# Altium footprint library SSST.PcbLib: 23 footprints (part 1 of 2)
Each footprint in its own frame and in the unit in brackets; x right, y up, seen from the top. Pads: shape width x height; smd on the part's side, far side on the other; paste and mask are expansions set on the pad; w line width, h text height; cw(c..) or ccw(c..) is an arc to the next point about the centre after c.
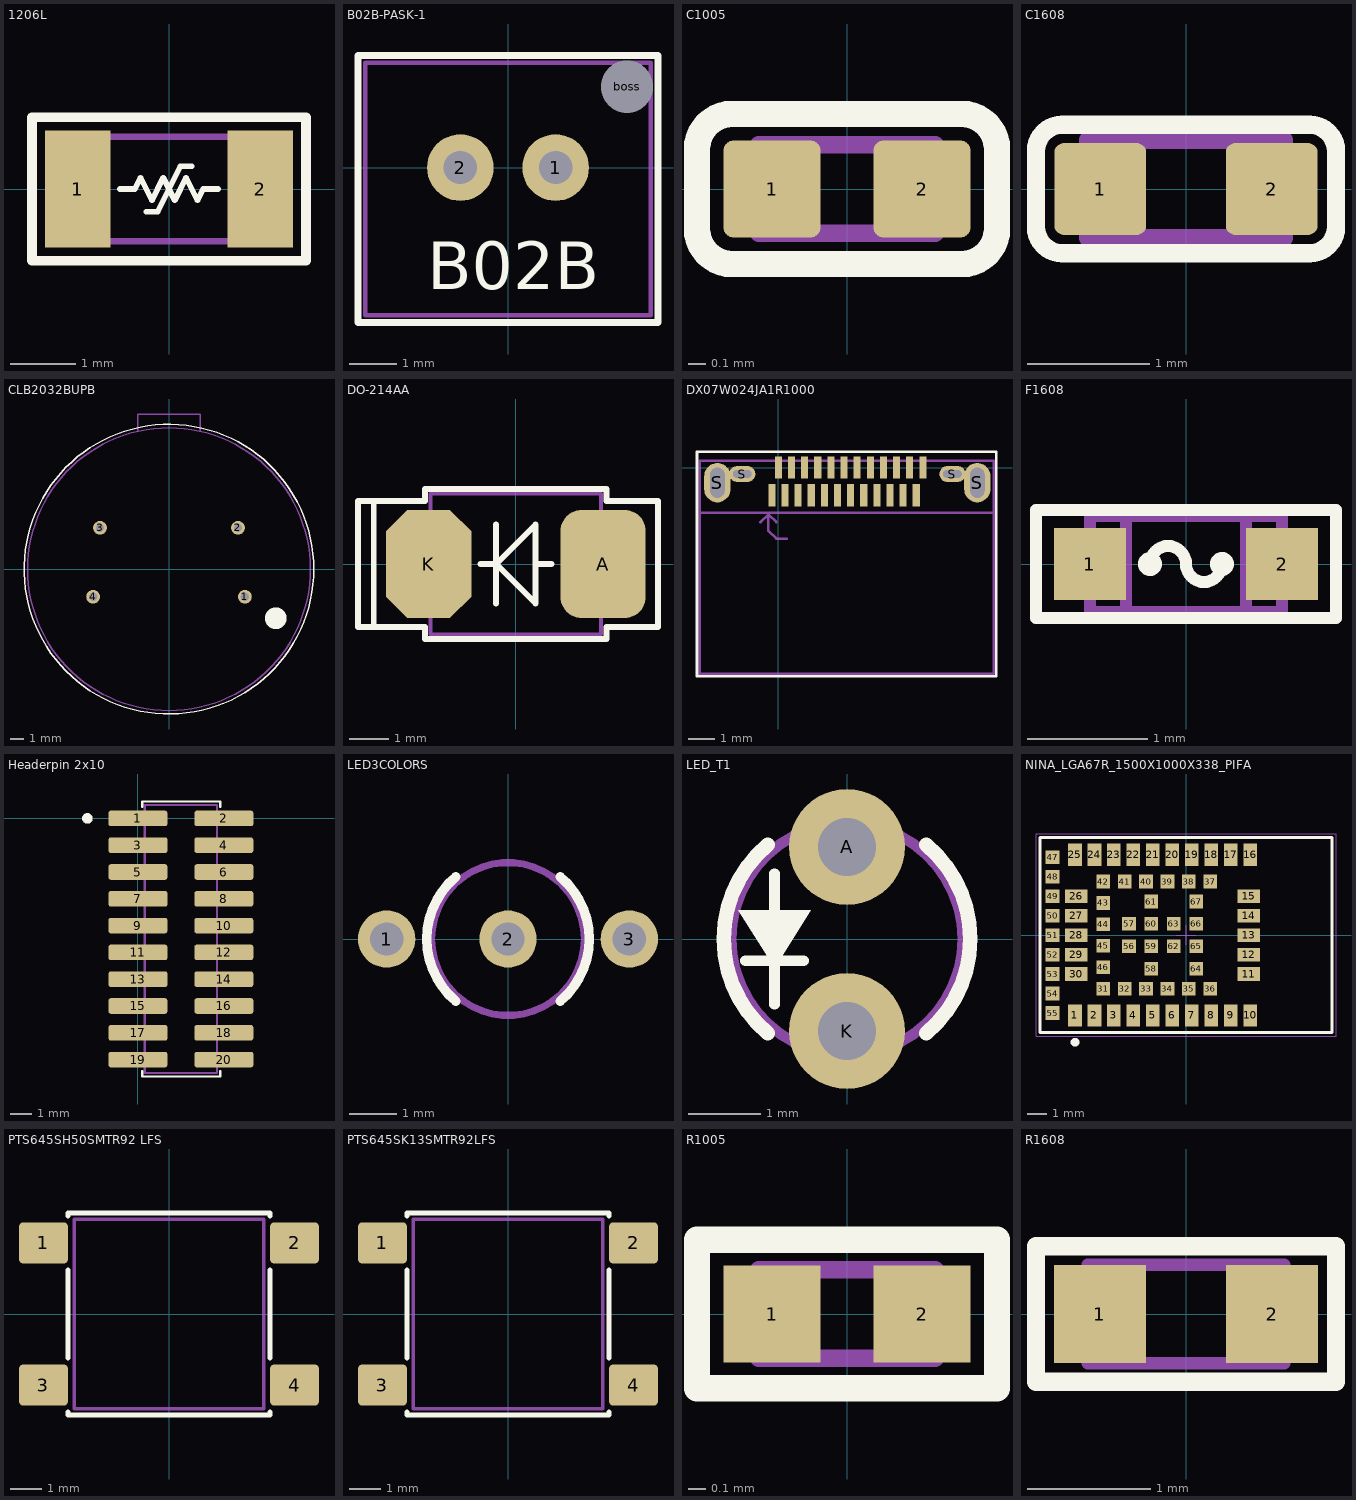
[diagram p0: the footprints below, top view; thin cyan lines are the x and y axes]

## 1206L [mm] "Resettable PTC 3.2mm x 1.6mm"
height 0.8
pads (2):
  rect 1x1.8 smd mask+0.05: 1(-1.4,0) 2(1.4,0)
Top Overlay:
  lines w0.087: -0.75,0 -0.524,0 -0.437,0.175 -0.262,-0.175 -0.087,0.175 0.087,-0.175 0.262,0.175 0.437,-0.175 0.524,0 0.75,0 ; -0.349,-0.349 -0.175,-0.349 0.175,0.349 0.349,0.349
  lines w0.15: -2.1,-1.1 2.1,-1.1 2.1,1.1 -2.1,1.1 -2.1,-1.1
Mechanical 5:
  lines w0.1: 1.599,-0.24 cw(c1.599,0) 1.599,0.24 ; 1.6,-0.24 1.6,-0.8 -1.6,-0.8 -1.6,-0.24 ccw(c-1.6,0) -1.6,0.24 -1.6,0.8 1.6,0.8 1.6,0.24
  text ".designator" at -1.1,-0.3 h0.6
Mechanical 13:
  lines w0.1: -1.1,-0.8 -1.1,0.8 ; 1.1,-0.8 1.1,0.8 ; 1.599,-0.24 cw(c1.599,0) 1.599,0.24 ; 1.6,-0.24 1.6,-0.8 -1.6,-0.8 -1.6,-0.24 ccw(c-1.6,0) -1.6,0.24 -1.6,0.8 1.6,0.8 1.6,0.24
3D body: height 1, standoff 0, extent -1.6,-0.8 -1.1,0.8
3D body: height 1, standoff 0, extent 1.1,-0.75 1.6,0.85
3D body: height 1, standoff 0, extent -1.1,-0.8 1.1,0.8

## B02B-PASK-1 [mm] "JST2ピンコネクタ"
height 12.62
pads (3):
  round 1.4 hole 0.7: 1(1,0) 2(-1,0)
  round 0.8 hole 1.1 unplated: boss(2.5,1.7)
Top Overlay:
  lines w0.15: -3.15,-3.25 -3.15,2.35 3.15,2.35 3.15,-3.25 -3.15,-3.25
  text "B02B" at -1.7,-2.55 h1
Bottom Overlay:
  text "2" at -0.65,-2.05 h1
  text "1" at 1.15,-2.05 h1
Mechanical 13:
  lines w0.1: -3,-3.1 -3,2.2 -2.95,2.2 3,2.2 3,-3.1 -3,-3.1
3D body "B02B-PASK.STEP": height 7.75, standoff -2.95, extent -3,-3.1 3,2.2

## C1005 [mm] "Ceramic capacitor 1mm x 0.5mm"
height 0.5
pads (2):
  rrect20% 0.55x0.55 smd mask+0.05: 1(-0.425,0) 2(0.425,0)
Top Overlay:
  lines w0.15: -0.85,-0.225 ccw(c-0.65,-0.225) -0.65,-0.425 0.65,-0.425 ccw(c0.65,-0.225) 0.85,-0.225 0.85,0.225 ccw(c0.65,0.225) 0.65,0.425 -0.65,0.425 ccw(c-0.65,0.225) -0.85,0.225 -0.85,-0.225
Mechanical 5:
  lines w0.1: -0.85,-0.225 ccw(c-0.65,-0.225) -0.65,-0.425 0.65,-0.425 ccw(c0.65,-0.225) 0.85,-0.225 0.85,0.225 ccw(c0.65,0.225) 0.65,0.425 -0.65,0.425 ccw(c-0.65,0.225) -0.85,0.225 -0.85,-0.225
  text ".designator" at -0.66,-0.15 h0.3
Mechanical 13:
  lines w0.1: -0.225,-0.25 -0.225,0.25 ; 0.225,-0.25 0.225,0.25 ; -0.5,-0.25 -0.5,0.25 0.5,0.25 0.5,-0.25 -0.5,-0.25
3D body: height 0.5, standoff 0, extent -0.499,-0.249 -0.226,0.249
3D body: height 0.5, standoff 0, extent -0.224,-0.249 0.224,0.249
3D body: height 0.5, standoff 0, extent 0.226,-0.249 0.499,0.249

## C1608 [mm] "Ceramic capacitor 1.6mm x 0.8mm"
height 0.8
pads (2):
  rrect20% 0.75x0.75 smd mask+0.05: 1(-0.7,0) 2(0.7,0)
Top Overlay:
  lines w0.15: -1.225,-0.31 ccw(c-1.01,-0.31) -1.01,-0.525 1.01,-0.525 ccw(c1.01,-0.31) 1.225,-0.31 1.225,0.31 ccw(c1.01,0.31) 1.01,0.525 -1.01,0.525 ccw(c-1.01,0.31) -1.225,0.31 -1.225,-0.31
Mechanical 5:
  lines w0.1: -1.225,-0.31 ccw(c-1.01,-0.31) -1.01,-0.525 1.01,-0.525 ccw(c1.01,-0.31) 1.225,-0.31 1.225,0.31 ccw(c1.01,0.31) 1.01,0.525 -1.01,0.525 ccw(c-1.01,0.31) -1.225,0.31 -1.225,-0.31
  text ".designator" at -1.1,-0.25 h0.5
Mechanical 13:
  lines w0.15: -0.4,-0.4 -0.4,0.4 ; 0.4,-0.4 0.4,0.4 ; -0.8,-0.4 -0.8,0.4 0.8,0.4 0.8,-0.4 -0.8,-0.4
3D body: height 0.8, standoff 0, extent -0.799,-0.399 -0.401,0.399
3D body: height 0.8, standoff 0, extent -0.399,-0.399 0.399,0.399
3D body: height 0.8, standoff 0, extent 0.401,-0.399 0.799,0.399

## CLB2032BUPB [mm] "3.7V出力電池　ピン出力タイプ"
height 4.5
pads (4):
  round 1 hole 0.6: 1(5.5,-2) 2(5,3) 3(-5,3) 4(-5.5,-2)
Top Overlay:
  circle w0.1: c0,0 r10.5
  circle w1: c7.747,-3.556 r0.284
Mechanical 13:
  circle w0.1: c0,0 r10.25
  lines w0.1: -2.25,10.033 -2.25,11.25 2.25,11.25 2.25,10.033
3D body: height 5, standoff 0, extent -10.269,-10.269 10.269,10.269

## DO-214AA [mm] "SMB"
height 0.8
pads (2):
  rrect50% 2.159x2.743 smd: A(2.21,0)
  oct 2.159x2.743 smd: K(-2.21,0)
Top Overlay:
  lines w0.15: -0.9,0 -0.5,0 ; -0.5,-1 -0.5,1 ; -0.45,-0.05 0.5,-1 0.5,1 -0.45,0.05 ; 0.5,0 0.9,0 ; -3.6,-1.6 -3.6,1.6 ; -3.6,-1.6 -2.3,-1.6 -2.3,-1.9 2.3,-1.9 2.3,-1.6 3.6,-1.6 3.6,1.6 2.3,1.6 2.3,1.9 -2.3,1.9 -2.3,1.6 -3.6,1.6 ; -3.6,-1.6 -4,-1.6 -4,1.6 -3.6,1.6
Mechanical 5:
  text ".designator" at -1.55,-0.35 h0.7
Mechanical 13:
  lines w0.1: -2.16,-1 -2.72,-1 -2.72,1 -2.16,1 ; 2.16,-1 2.72,-1 2.72,1 2.16,1 ; -2.16,-1.78 2.16,-1.78 2.16,1.78 -2.16,1.78 -2.16,-1.78
3D body: height 0.8, standoff 0, extent -2.159,-1.779 2.159,1.779
3D body: height 0.5, standoff 0, extent 2.161,-0.999 2.719,0.999
3D body: height 0.5, standoff 0, extent -2.719,-0.999 -2.161,0.999

## DX07W024JA1R1000 [mm] "USB3.1 Type-C"
height 4.5
pads (28):
  rect 0.27x0.85 smd paste+0 mask+0.05: A1(0,0) A2(0.5,0) A3(1,0) A4(1.5,0) A5(2,0) A6(2.5,0) A7(3,0) A8(3.5,0) A9(4,0) A10(4.5,0) A11(5,0) A12(5.5,0) B1(5.25,-1.05) B2(4.75,-1.05) B3(4.25,-1.05) B4(3.75,-1.05) B5(3.25,-1.05) B6(2.75,-1.05) B7(2.25,-1.05) B8(1.75,-1.05) B9(1.25,-1.05) B10(0.75,-1.05) B11(0.25,-1.05) B12(-0.25,-1.05)
  oval 1x1.5 hole 0.55 slot 1.15 at 90 deg mask+0.05: S(-2.325,-0.575) S(7.575,-0.575)
  oval 1x0.6 hole 0.3 slot 0.7 at 0 deg mask+0.05: S(-1.375,-0.245) S(6.625,-0.245)
Top Overlay:
  lines w0.1: -3.1,-7.944 8.3,-7.944 8.3,0.6 -3.1,0.6 -3.1,-7.944
Mechanical 5:
  lines w0.1: -2.996,-1.725 8.204,-1.725 ; -2.996,-7.851 8.204,-7.851 8.204,0.254 -2.996,0.254 -2.996,-7.851
  text ".designator" at -2.905,-6.186 h1.5
Mechanical 13:
  lines w0.1: -2.996,-1.725 8.204,-1.725 ; -0.681,-2.078 -0.381,-1.778 ; -0.081,-2.078 -0.381,-1.778 ; 0.319,-2.708 -0.081,-2.708 -0.381,-2.408 -0.381,-1.778 ; -2.996,-7.851 -2.996,0.254 8.204,0.254 8.204,-7.851 -2.996,-7.851
  text "PCB EDGE" at 0.619,-2.278 h0.8
3D body "K3D-DX07W024JA1-V1_JAE_Proprietary.STEP": height 3.6, standoff -0.9, extent -2.975,-7.879 8.225,0.171

## F1608 [mm] "Fuse 1.6mm x 0.8mm"
height 0.4
pads (2):
  rect 0.6x0.6 smd mask+0.05: 1(-0.8,0) 2(0.8,0)
Top Overlay:
  circle w0.1: c-0.3,0 r0.05
  circle w0.1: c0.3,0 r0.05
  lines w0.1: -0.3,0 cw(c-0.15,0) -0.15,0.15 cw(c-0.15,0) 0,0 ccw(c0.15,0) 0.15,-0.15 ccw(c0.15,0) 0.3,0 ; -1.25,-0.45 1.25,-0.45 1.25,0.45 -1.25,0.45 -1.25,-0.45
Mechanical 5:
  lines w0.1: -1.25,-0.45 1.25,-0.45 1.25,0.45 -1.25,0.45 -1.25,-0.45
  text ".designator" at -1.05,-0.25 h0.5
Mechanical 13:
  lines w0.1: -0.5,-0.4 -0.5,0.4 ; 0.5,-0.4 0.5,0.4 ; -0.8,-0.4 -0.8,0.4 0.8,0.4 0.8,-0.4 -0.8,-0.4
3D body: height 0.45, standoff 0, extent 0.5,-0.399 0.799,0.399
3D body: height 0.45, standoff 0, extent -0.5,-0.399 0.5,0.399
3D body: height 0.45, standoff 0, extent -0.799,-0.399 -0.5,0.399

## Headerpin 2x10 [mm] "Headerpin 2x10,1.27mm Pitch"
height 1.75
pads (20):
  rrect30% 2.79x0.74 smd: 1(0,0) 2(4.07,0) 3(0,-1.27) 4(4.07,-1.27) 5(0,-2.54) 6(4.07,-2.54) 7(0,-3.81) 8(4.07,-3.81) 9(0,-5.08) 10(4.07,-5.08) 11(0,-6.35) 12(4.07,-6.35) 13(0,-7.62) 14(4.07,-7.62) 15(0,-8.89) 16(4.07,-8.89) 17(0,-10.16) 18(4.07,-10.16) 19(0,-11.43) 20(4.07,-11.43)
Top Overlay:
  circle w0.25: c-2.4,0 r0.125
  lines w0.1: 0.2,-11.98 0.2,-12.23 3.9,-12.23 3.9,-11.98 ; 0.2,0.55 0.2,0.8 3.9,0.8 3.9,0.55
Mechanical 5:
  circle w0.1: c1,0 r0.3
  lines w0.1: 0.3,-11.68 -0.2,-11.68 -0.2,-11.18 0.3,-11.18 ; 0.3,-10.41 -0.2,-10.41 -0.2,-9.91 0.3,-9.91 ; 0.3,-9.14 -0.2,-9.14 -0.2,-8.64 0.3,-8.64 ; 0.3,-7.87 -0.2,-7.87 -0.2,-7.37 0.3,-7.37 ; 0.3,-6.6 -0.2,-6.6 -0.2,-6.1 0.3,-6.1 ; 0.3,-5.33 -0.2,-5.33 -0.2,-4.83 0.3,-4.83 ; 0.3,-4.06 -0.2,-4.06 -0.2,-3.56 0.3,-3.56 ; 0.3,-2.79 -0.2,-2.79 -0.2,-2.29 0.3,-2.29 ; 0.3,-1.52 -0.2,-1.52 -0.2,-1.02 0.3,-1.02 ; 0.3,-0.25 -0.2,-0.25 -0.2,0.25 0.3,0.25 ; 3.77,-11.68 4.27,-11.68 4.27,-11.18 3.77,-11.18 ; 3.77,-10.41 4.27,-10.41 4.27,-9.91 3.77,-9.91 ; 3.77,-9.14 4.27,-9.14 4.27,-8.64 3.77,-8.64 ; 3.77,-7.87 4.27,-7.87 4.27,-7.37 3.77,-7.37 ; 3.77,-6.6 4.27,-6.6 4.27,-6.1 3.77,-6.1 ; 3.77,-5.33 4.27,-5.33 4.27,-4.83 3.77,-4.83 ; 3.77,-4.06 4.27,-4.06 4.27,-3.56 3.77,-3.56 ; 3.77,-2.79 4.27,-2.79 4.27,-2.29 3.77,-2.29 ; 3.77,-1.52 4.27,-1.52 4.27,-1.02 3.77,-1.02 ; 3.77,-0.25 4.27,-0.25 4.27,0.25 3.77,0.25 ; 0.32,-12.065 3.75,-12.065 3.75,0.635 0.32,0.635 0.32,-12.065
  text ".designator" at 2.4,-9.2 h1
Mechanical 13:
  lines w0.1: 0.32,-12.065 3.75,-12.065 3.75,0.635 0.32,0.635 0.32,-12.065
3D body "FTSH-110-01-F-DV-K-P-TR.stp": height 6.99, standoff 0, extent -0.921,-12.05 6.445,0.65

## LED3COLORS [mm]
pads (3):
  round 1.2 hole 0.7: 1(-2.54,0) 2(0,0) 3(2.54,0)
Top Overlay:
  lines w0.2: -1.093,-1.302 cw(c0,0) -1.093,1.302 ; 1.093,-1.302 ccw(c0,0) 1.093,1.302
Mechanical 13:
  circle w0.15: c0,0 r1.6
3D body "1259-7.STEP": height 9.5, standoff -20, extent -2.25,-1.5 2.25,1.9

## LED_T1 [mm] "3mm (T1) package"
height 5.4
pads (2):
  round 1.6 hole 0.8: A(0,1.27) K(0,-1.27)
Top Overlay:
  region: -1,-0.4 -1.5,0.4 -0.5,0.4
  lines w0.15: -1.4,-0.3 -0.6,-0.3 ; -1,-0.9 -1,0.9
  lines w0.2: -1.093,-1.302 cw(c0,0) -1.093,1.302 ; 1.093,-1.302 ccw(c0,0) 1.093,1.302
Mechanical 13:
  circle w0.15: c0,0 r1.6
3D body "User Library-LED 3MM ambar.step": height 9.6, standoff 0.5, extent -1.999,-1.5 2,2

## NINA_LGA67R_1500X1000X338_PIFA [mm] "Stand-alone Bluetooth low energy module"
height 3.38
pads (67):
  rect 0.7x1.15 smd paste+0 mask+0.05: 1(-5.7,-4.125) 2(-4.7,-4.125) 3(-3.7,-4.125) 4(-2.7,-4.125) 5(-1.7,-4.125) 6(-0.7,-4.125) 7(0.3,-4.125) 8(1.3,-4.125) 9(2.3,-4.125) 10(3.3,-4.125) 16(3.3,4.125) 17(2.3,4.125) 18(1.3,4.125) 19(0.3,4.125) 20(-0.7,4.125) 21(-1.7,4.125) 22(-2.7,4.125) 23(-3.7,4.125) 24(-4.7,4.125) 25(-5.7,4.125)
  rect 1.15x0.7 smd paste+0 mask+0.05: 11(3.225,-2) 12(3.225,-1) 13(3.225,0) 14(3.225,1) 15(3.225,2) 26(-5.625,2) 27(-5.625,1) 28(-5.625,0) 29(-5.625,-1) 30(-5.625,-2)
  rect 0.7x0.7 smd paste+0 mask+0.05: 31(-4.25,-2.75) 32(-3.15,-2.75) 33(-2.05,-2.75) 34(-0.95,-2.75) 35(0.15,-2.75) 36(1.25,-2.75) 37(1.25,2.75) 38(0.15,2.75) 39(-0.95,2.75) 40(-2.05,2.75) 41(-3.15,2.75) 42(-4.25,2.75) 43(-4.25,1.65) 44(-4.25,0.55) 45(-4.25,-0.55) 46(-4.25,-1.65) 47(-6.85,4) 48(-6.85,3) 49(-6.85,2) 50(-6.85,1) 51(-6.85,0) 52(-6.85,-1) 53(-6.85,-2) 54(-6.85,-3) 55(-6.85,-4) 56(-2.925,-0.575) 57(-2.925,0.575) 58(-1.775,-1.725) 59(-1.775,-0.575) 60(-1.775,0.575) 61(-1.775,1.725) 62(-0.625,-0.575) 63(-0.625,0.575) 64(0.525,-1.725) 65(0.525,-0.575) 66(0.525,0.575) 67(0.525,1.725)
Top Overlay:
  circle w0.254: c-5.7,-5.5 r0.1
  lines w0.15: -7.5,-5 7.5,-5 7.5,5 -7.5,5 -7.5,-5
Mechanical 13:
  lines w0.1: -7.5,-5 7.5,-5 7.5,5 -7.5,5 -7.5,-5
Mechanical 15:
  lines w0.05: -0.5,0 0.5,0 ; 0,-0.5 0,0.5 ; -7.7,-5.2 7.7,-5.2 7.7,5.2 -7.7,5.2 -7.7,-5.2
  text ".Designator" at 0.1,0.433 h1
3D body "NINA-B312_mechanical_model.stp": height 3.91, standoff 0.03, extent -7.5,-5 7.5,5

## PTS645SH50SMTR92 LFS [mm]
height 5
pads (4):
  rrect20% 1.55x1.3 smd: 1(-3.975,2.25) 2(3.975,2.25) 3(-3.975,-2.25) 4(3.975,-2.25)
Top Overlay:
  lines w0.15: -3.2,-3.1 -3.2,-3.2 3.1,-3.2 3.2,-3.2 3.2,-3.1 ; -3.2,-1.4 -3.2,1.4 ; -3.2,3.1 -3.2,3.2 3.2,3.2 3.2,3.1 ; 3.2,-1.4 3.2,1.4
Mechanical 13:
  lines w0.1: -3,-3 -3,0 -3,3 0,3 3,3 3,0 3,-3 -3,-3
3D body "User Library-PTS645SL50SMTR92-LFS.STEP": height 5, standoff 0, extent -4.5,-3 4.5,3

## PTS645SK13SMTR92LFS [mm]
height 13
pads (4):
  rrect20% 1.55x1.3 smd: 1(-3.975,2.25) 2(3.975,2.25) 3(-3.975,-2.25) 4(3.975,-2.25)
Top Overlay:
  lines w0.15: -3.2,-3.1 -3.2,-3.2 3.1,-3.2 3.2,-3.2 3.2,-3.1 ; -3.2,-1.4 -3.2,1.4 ; -3.2,3.1 -3.2,3.2 3.2,3.2 3.2,3.1 ; 3.2,-1.4 3.2,1.4
Mechanical 13:
  lines w0.1: -3,-3 3,-3 3,0 3,3 0,3 -3,3 -3,0 -3,-3
3D body "PTS645SK95SMTR92LFS.stp": height 9.5, standoff 0, extent -4.5,-3 4.5,3

## R1005 [mm]
height 0.35
pads (2):
  rect 0.55x0.55 smd mask+0.05: 1(-0.425,0) 2(0.425,0)
Top Overlay:
  lines w0.15: -0.85,-0.42 0.85,-0.42 0.85,0.42 -0.85,0.42 -0.85,-0.42
Mechanical 5:
  lines w0.1: -0.85,-0.42 -0.85,0.42 0.85,0.42 0.85,-0.42 -0.85,-0.42
  text ".designator" at -0.66,-0.15 h0.3
Mechanical 13:
  lines w0.1: -0.225,-0.25 -0.225,0.25 ; 0.225,-0.25 0.225,0.25 ; -0.5,-0.25 -0.5,0.25 0.5,0.25 0.5,-0.25 -0.5,-0.25
3D body: height 0.35, standoff 0, extent 0.226,-0.249 0.499,0.249
3D body: height 0.35, standoff 0, extent -0.224,-0.249 0.224,0.249
3D body: height 0.35, standoff 0, extent -0.499,-0.249 -0.226,0.249

## R1608 [mm]
height 0.45
pads (2):
  rect 0.75x0.8 smd mask+0.05: 1(-0.7,0) 2(0.7,0)
Top Overlay:
  lines w0.15: -1.22,-0.55 1.22,-0.55 1.22,0.55 -1.22,0.55 -1.22,-0.55
Mechanical 5:
  lines w0.1: -1.22,-0.55 -1.22,0.55 1.22,0.55 1.22,-0.55 -1.22,-0.55
  text ".designator" at -1.05,-0.25 h0.5
Mechanical 13:
  lines w0.1: -0.4,-0.4 -0.4,0.4 ; 0.4,-0.4 0.4,0.4 ; -0.8,-0.4 -0.8,0.4 0.8,0.4 0.8,-0.4 -0.8,-0.4
3D body: height 0.45, standoff 0, extent -0.799,-0.399 -0.401,0.399
3D body: height 0.45, standoff 0, extent -0.399,-0.399 0.399,0.399
3D body: height 0.45, standoff 0, extent 0.401,-0.399 0.799,0.399